# EAGLE library part DS1267 (library ic)
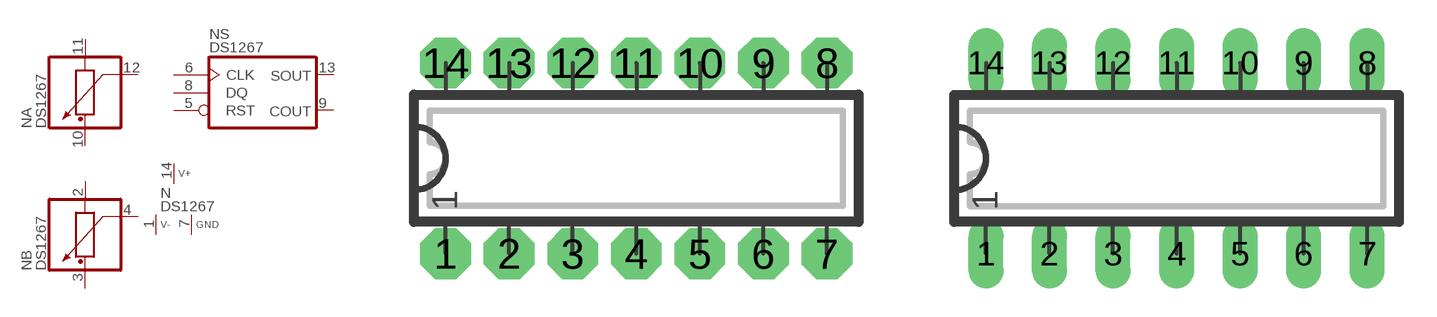
[diagram p23: symbol with the pads of DIP14N; footprints DIP14N, DIP14L]

Designator prefix N; gates A=POT B=POT S=DS1267_D P=V+-GND

## DS1267N  [DIP14N]
1  P:V-  pwr
2  B:P+
3  B:P-
4  B:PM
5  S:RST  in
6  S:CLK  in
7  P:GND  pwr
8  S:DQ  in
9  S:COUT  out
10  A:P-
11  A:P+
12  A:PM
13  S:SOUT  out
14  P:V+  pwr

## DS1267  [DIP14L]
Pads as for DIP14N

## DS1267L  [DIP14L]
Pads as for DIP14N

## DS1267R  [DIP14R]
Pads as for DIP14N

## Footprint DIP14N (pad centres in mm)
DIP-14 Standard IC package, 14 pins
drill 0.813 pad 2.032 octagon: 1 -7.62,-3.81; 2 -5.08,-3.81; 3 -2.54,-3.81; 4 0,-3.81; 5 2.54,-3.81; 6 5.08,-3.81; 7 7.62,-3.81; 8 7.62,3.81; 9 5.08,3.81; 10 2.54,3.81; 11 0,3.81; 12 -2.54,3.81; 13 -5.08,3.81; 14 -7.62,3.81

## Footprint DIP14L (pad centres in mm)
DIP-14, long pads Standard IC package, 14 pins
drill 0.813 pad 1.397 long: 1 -7.62,-3.81; 2 -5.08,-3.81; 3 -2.54,-3.81; 4 0,-3.81; 5 2.54,-3.81; 6 5.08,-3.81; 7 7.62,-3.81; 8 7.62,3.81; 9 5.08,3.81; 10 2.54,3.81; 11 0,3.81; 12 -2.54,3.81; 13 -5.08,3.81; 14 -7.62,3.81

## Footprint DIP14R (pad centres in mm)
DIP-14, reduced pads Standard IC package, 14 pins
drill 0.813 pad 1.397 square: 1 -7.62,-3.81; 2 -5.08,-3.81; 3 -2.54,-3.81; 4 0,-3.81; 5 2.54,-3.81; 6 5.08,-3.81; 7 7.62,-3.81; 8 7.62,3.81; 9 5.08,3.81; 10 2.54,3.81; 11 0,3.81; 12 -2.54,3.81; 13 -5.08,3.81; 14 -7.62,3.81